# Altium integrated library SCREW.IntLib: 45 symbols
Pins are listed as number, name and electrical type; pins without a type are passive.

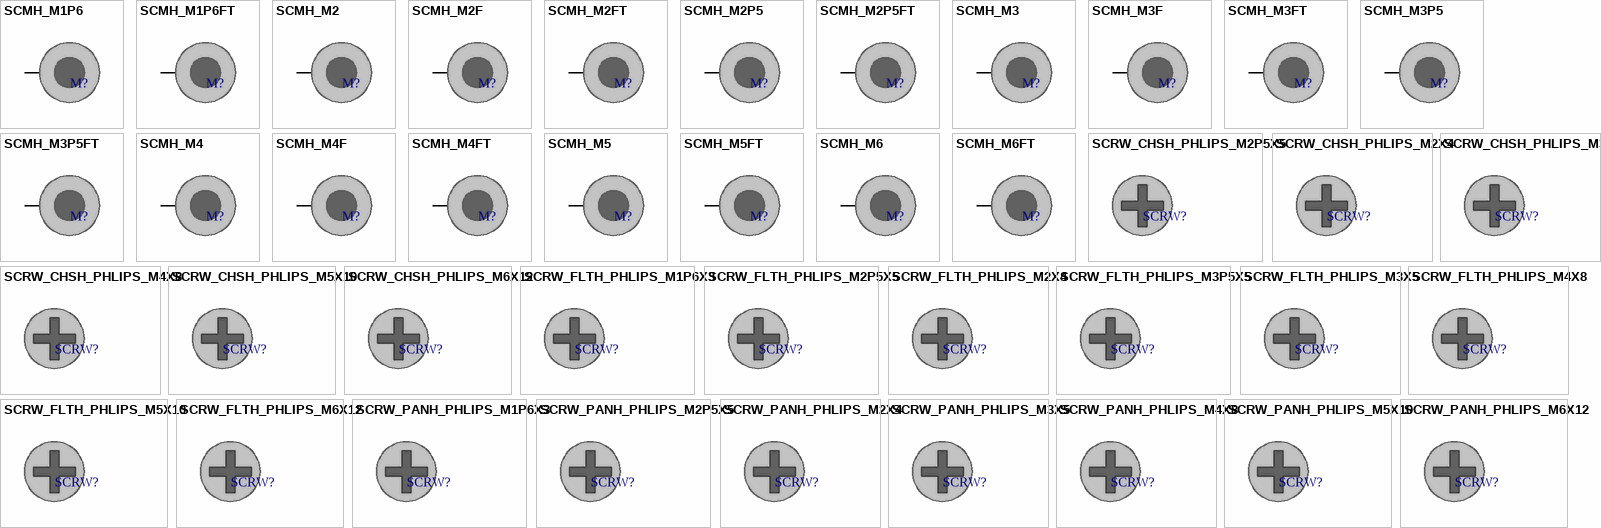
[diagram p0: symbols SCMH_M1P6 to SCRW_PANH_PHLIPS_M6X12]

## SCMH_M1P6
designator M?, comment DNP/MH  (value not drawn)  (no BOM)
SCREW mouting, M1.6, 1.6mm diameter and 3.2mm PanHead; ASSEMBLY: DNP; VALUE: DNP/MH
footprint SCMH_M1P6 (SCREW mouting, M1.6, 1.6mm diameter and 3.2mm PanHead)
pins: 1

## SCMH_M1P6FT
designator M?, comment DNP/MH  (value not drawn)  (no BOM)
SCREW mouting, M1.6, 1.6mm diameter and 3mm, FlatHead; ASSEMBLY: DNP; VALUE: DNP/MH
footprint SCMH_M1P6FT (SCREW mouting, M1.6, 1.6mm diameter and 2.5mm, FlatHead)
pins: 1

## SCMH_M2
designator M?, comment DNP/MH  (value not drawn)  (no BOM)
SCREW mouting, M2, 2.0mm diameter and 4.0mm PanHead; ASSEMBLY: DNP; VALUE: DNP/MH
footprint SCMH_M2 (SCREW mouting, M2, 2.0mm diameter and 4.0mm PanHead)
pins: 1

## SCMH_M2F
designator M?, comment DNP/MH  (value not drawn)  (no BOM)
SCREW mouting, M2, 2.0mm diameter and 5.0mm FlangeHead; ASSEMBLY: DNP; VALUE: DNP/MH
footprint SCMH_M2F (SCREW mouting, M2, 2.0mm diameter and 5.0mm FlangeHead)
pins: 1

## SCMH_M2FT
designator M?, comment DNP/MH  (value not drawn)  (no BOM)
SCREW mouting, M2, 2.0mm diameter and 3.2mm, FlatHead; ASSEMBLY: DNP; VALUE: DNP/MH
footprint SCMH_M2FT (SCREW mouting, M2, 2.0mm diameter and 3.2mm, FlatHead)
pins: 1

## SCMH_M2P5
designator M?, comment DNP/MH  (value not drawn)  (no BOM)
SCREW mouting, M2.5, 2.5mm diameter and 5.0mm PanHead; ASSEMBLY: DNP; VALUE: DNP/MH
footprint SCMH_M2P5 (SCREW mouting, M2.5, 2.5mm diameter and 5.0mm PanHead)
pins: 1

## SCMH_M2P5FT
designator M?, comment DNP/MH  (value not drawn)  (no BOM)
SCREW mouting, M2.5, 2.5mm diameter and 5.0mm, FlatHead; ASSEMBLY: DNP; VALUE: DNP/MH
footprint SCMH_M2P5FT (SCREW mouting, M2.5, 2.5mm diameter and 5.0mm, FlatHead)
pins: 1

## SCMH_M3
designator M?, comment DNP/MH  (value not drawn)  (no BOM)
SCREW mouting, M3, 3.0mm diameter and 6.0mm PanHead; ASSEMBLY: DNP; VALUE: DNP/MH
footprint SCMH_M3 (SCREW mouting, M3, 3.0mm diameter and 6.0mm PanHead)
pins: 1

## SCMH_M3F
designator M?, comment DNP/MH  (value not drawn)  (no BOM)
SCREW mouting, M3, 3.0mm diameter and 6.0mm FlangeHead; ASSEMBLY: DNP; VALUE: DNP/MH
footprint SCMH_M3F (SCREW mouting, M3, 3.0mm diameter and 6.0mm FlangeHead)
pins: 1

## SCMH_M3FT
designator M?, comment DNP/MH  (value not drawn)  (no BOM)
SCREW mouting, M3, 3.0mm diameter and 6.0mm, FlatHead; ASSEMBLY: DNP; VALUE: DNP/MH
footprint SCMH_M3FT (SCREW mouting, M3, 3.0mm diameter and 6.0mm, FlatHead)
pins: 1

## SCMH_M3P5
designator M?, comment DNP/MH  (value not drawn)  (no BOM)
SCREW mouting, M3.5, 3.5mm diameter and 7.0mm PanHead; ASSEMBLY: DNP; VALUE: DNP/MH
footprint SCMH_M3P5 (SCREW mouting, M3.5, 3.5mm diameter and 7.0mm PanHead)
pins: 1

## SCMH_M3P5FT
designator M?, comment DNP/MH  (value not drawn)  (no BOM)
SCREW mouting, M3.5, 3.5mm diameter and 7.0mm, FlatHead; ASSEMBLY: DNP; VALUE: DNP/MH
footprint SCMH_M3P5FT (SCREW mouting, M3.5, 3.5mm diameter and 7.0mm, FlatHead)
pins: 1

## SCMH_M4
designator M?, comment DNP/MH  (value not drawn)  (no BOM)
SCREW mouting, M4, 4mm diameter and 8.0mm PanHead; ASSEMBLY: DNP; VALUE: DNP/MH
footprint SCMH_M4 (SCREW mouting, M4, 4mm diameter and 8.0mm PanHead)
pins: 1

## SCMH_M4F
designator M?, comment DNP/MH  (value not drawn)  (no BOM)
SCREW mouting, M4, 4mm diameter and 8.0mm FlangeHead; ASSEMBLY: DNP; VALUE: DNP/MH
footprint SCMH_M4F (SCREW mouting, M4, 4mm diameter and 8.0mm FlangeHead)
pins: 1

## SCMH_M4FT
designator M?, comment DNP/MH  (value not drawn)  (no BOM)
SCREW mouting, M4, 4mm diameter and 8.0mm, FlatHead; ASSEMBLY: DNP; VALUE: DNP/MH
footprint SCMH_M4FT (SCREW mouting, M4, 4mm diameter and 8.0mm, FlatHead)
pins: 1

## SCMH_M5
designator M?, comment DNP/MH  (value not drawn)  (no BOM)
SCREW mouting, M5, 5mm diameter and 10.0mm PanHead; ASSEMBLY: DNP; VALUE: DNP/MH
footprint SCMH_M5 (SCREW mouting, M5, 5mm diameter and 10.0mm PanHead)
pins: 1

## SCMH_M5FT
designator M?, comment DNP/MH  (value not drawn)  (no BOM)
SCREW mouting, M5, 5mm diameter and 10.0mm, FlatHead; ASSEMBLY: DNP; VALUE: DNP/MH
footprint SCMH_M5FT (SCREW mouting, M5, 5mm diameter and 10.0mm, FlatHead)
pins: 1

## SCMH_M6
designator M?, comment DNP/MH  (value not drawn)  (no BOM)
SCREW mouting, M6, 6mm diameter and 12mm PanHead; ASSEMBLY: DNP; VALUE: DNP/MH
footprint SCMH_M6 (SCREW mouting, M6, 6mm diameter and 12mm PanHead)
pins: 1

## SCMH_M6FT
designator M?, comment DNP/MH  (value not drawn)  (no BOM)
SCREW mouting, M6, 6mm diameter and 12mm, FlatHead; ASSEMBLY: DNP; VALUE: DNP/MH
footprint SCMH_M6FT (SCREW mouting, M5, 5mm diameter and 9.6mm, FlatHead)
pins: 1

## SCRW_CHSH_PHLIPS_M2P5X5
designator SCRW?, comment SCREW  (value not drawn)
SCREW, M2.5, 2.5mm diameter and 5.0mm PanHead; ASSEMBLY: DNP; VALUE: SCREW
footprint SCRW_CHSH_PHLIPS_M2P5X5 (SCREW, M3, 2.5mm diameter and 5.0mm, CheaseHead, Phillips, 5mm length)

## SCRW_CHSH_PHLIPS_M2X4
designator SCRW?, comment SCREW  (value not drawn)
SCREW, M2, 2.0mm diameter and 4.0mm PanHead; ASSEMBLY: DNP; VALUE: SCREW
footprint SCRW_CHSH_PHLIPS_M2X4 (SCREW, M3, 2.0mm diameter and 4.0mm, CheaseHead, Phillips, 4mm length)

## SCRW_CHSH_PHLIPS_M3X5
designator SCRW?, comment SCREW  (value not drawn)
SCREW, M3, 3.0mm diameter and 6.0mm PanHead; ASSEMBLY: DNP; VALUE: SCREW
footprint SCRW_CHSH_PHLIPS_M3X5 (SCREW, M3, 3mm diameter and 6.0mm, CheaseHead, Phillips, 5mm length)

## SCRW_CHSH_PHLIPS_M4X8
designator SCRW?, comment SCREW  (value not drawn)
SCREW, M4, 4mm diameter and 8.0mm PanHead; ASSEMBLY: DNP; VALUE: SCREW
footprint SCRW_CHSH_PHLIPS_M4X8 (SCREW, M3, 4mm diameter and 8.0mm, CheaseHead, Phillips, 8mm length)

## SCRW_CHSH_PHLIPS_M5X10
designator SCRW?, comment SCREW  (value not drawn)
SCREW, M5, 5mm diameter and 10.0mm PanHead; ASSEMBLY: DNP; VALUE: SCREW
footprint SCRW_CHSH_PHLIPS_M5X10 (SCREW, M3, 5mm diameter and 10mm, CheaseHead, Phillips, 10mm length)

## SCRW_CHSH_PHLIPS_M6X12
designator SCRW?, comment SCREW  (value not drawn)
SCREW, M6, 6mm diameter and 12mm PanHead; ASSEMBLY: DNP; VALUE: SCREW
footprint SCRW_CHSH_PHLIPS_M6X12 (SCREW, M3, 6mm diameter and 12mm, CheaseHead, Phillips, 12mm length)

## SCRW_FLTH_PHLIPS_M1P6X3
designator SCRW?, comment SCREW  (value not drawn)
SCREW, M1.6, 1.6mm diameter and 3mm, FlatHead; ASSEMBLY: DNP; VALUE: SCREW
footprint SCRW_FLTH_PHLIPS_M1P6X3 (SCREW, M1.6, 1.6mm diameter and 2.5mm FlatHead, Phillips, 3mm length)

## SCRW_FLTH_PHLIPS_M2P5X5
designator SCRW?, comment SCREW  (value not drawn)
SCREW, M2.5, 2.5mm diameter and 5.0mm, FlatHead; ASSEMBLY: DNP; VALUE: SCREW
footprint SCRW_FLTH_PHLIPS_M2P5X5 (SCREW, M2.5, 2.5mm diameter and 5.0mm FlatHead, Phillips, 5mm length)

## SCRW_FLTH_PHLIPS_M2X4
designator SCRW?, comment SCREW  (value not drawn)
SCREW, M2, 2.0mm diameter and 3.2mm, FlatHead; ASSEMBLY: DNP; VALUE: SCREW
footprint SCRW_FLTH_PHLIPS_M2X4 (SCREW, M2, 2.0mm diameter and 4.0mm FlatHead, Phillips, 4mm length)

## SCRW_FLTH_PHLIPS_M3P5X5
designator SCRW?, comment SCREW  (value not drawn)
SCREW, M3.5, 3.5mm diameter and 7.0mm, FlatHead; ASSEMBLY: DNP; VALUE: SCREW
footprint SCRW_FLTH_PHLIPS_M3P5X5 (SCREW, M3.5, 3.5mm diameter and 7.0mm FlatHead, Phillips, 5mm length)

## SCRW_FLTH_PHLIPS_M3X5
designator SCRW?, comment SCREW  (value not drawn)
SCREW, M3, 3.0mm diameter and 6.0mm, FlatHead; ASSEMBLY: DNP; VALUE: SCREW
footprint SCRW_FLTH_PHLIPS_M3X5 (SCREW, M3, 3mm diameter and 6.0mm FlatHead, Phillips, 5mm length)

## SCRW_FLTH_PHLIPS_M4X8
designator SCRW?, comment SCREW  (value not drawn)
SCREW, M4, 4mm diameter and 8.0mm, FlatHead; ASSEMBLY: DNP; VALUE: SCREW
footprint SCRW_FLTH_PHLIPS_M4X8 (SCREW, M4, 4mm diameter and 8.0mm FlatHead, Phillips, 8mm length)

## SCRW_FLTH_PHLIPS_M5X10
designator SCRW?, comment SCREW  (value not drawn)
SCREW, M5, 5mm diameter and 10.0mm, FlatHead; ASSEMBLY: DNP; VALUE: SCREW
footprint SCRW_FLTH_PHLIPS_M5X10 (SCREW, M5, 5mm diameter and 10mm FlatHead, Phillips, 10mm length)

## SCRW_FLTH_PHLIPS_M6X12
designator SCRW?, comment SCREW  (value not drawn)
SCREW, M6, 6mm diameter and 12mm, FlatHead; ASSEMBLY: DNP; VALUE: SCREW
footprint SCRW_FLTH_PHLIPS_M6X12 (SCREW, M6, 6mm diameter and 12mm FlatHead, Phillips, 12mm length)

## SCRW_PANH_PHLIPS_M1P6X3
designator SCRW?, comment SCREW  (value not drawn)
SCREW, M1.6, 1.6mm diameter and 3.2mm PanHead; ASSEMBLY: DNP; VALUE: SCREW
footprint SCRW_PANH_PHLIPS_M1P6X3 (SCREW, M1.6, 1.6mm diameter and 3.2mm PanHead, Phillips, 3mm length)

## SCRW_PANH_PHLIPS_M2P5X5
designator SCRW?, comment SCREW  (value not drawn)
SCREW, M2.5, 2.5mm diameter and 5.0mm PanHead; ASSEMBLY: DNP; VALUE: SCREW
footprint SCRW_PANH_PHLIPS_M2P5X5 (SCREW, M3, 2.5mm diameter and 5.0mm PanHead, Phillips, 5mm length)

## SCRW_PANH_PHLIPS_M2X4
designator SCRW?, comment SCREW  (value not drawn)
SCREW, M2, 2.0mm diameter and 4.0mm PanHead; ASSEMBLY: DNP; VALUE: SCREW
footprint SCRW_PANH_PHLIPS_M2X4 (SCREW, M3, 2.0mm diameter and 4.0mm PanHead, Phillips, 4mm length)

## SCRW_PANH_PHLIPS_M3X5
designator SCRW?, comment SCREW  (value not drawn)
SCREW, M3, 3.0mm diameter and 6.0mm PanHead; ASSEMBLY: DNP; VALUE: SCREW
footprint SCRW_PANH_PHLIPS_M3X5 (SCREW, M3, 3.0mm diameter and 6.0mm PanHead, Phillips or Cross, 5mm Length)

## SCRW_PANH_PHLIPS_M4X8
designator SCRW?, comment SCREW  (value not drawn)
SCREW, M4, 4mm diameter and 8.0mm PanHead; ASSEMBLY: DNP; VALUE: SCREW
footprint SCRW_PANH_PHLIPS_M4X8 (SCREW, M3, 4.0mm diameter and 8.0mm PanHead, Phillips, 8mm length)

## SCRW_PANH_PHLIPS_M5X10
designator SCRW?, comment SCREW  (value not drawn)
SCREW, M5, 5mm diameter and 10.0mm PanHead; ASSEMBLY: DNP; VALUE: SCREW
footprint SCRW_PANH_PHLIPS_M5X10 (SCREW, M3, 5.0mm diameter and 10mm PanHead, Phillips, 10mm length)

## SCRW_PANH_PHLIPS_M6X12
designator SCRW?, comment SCREW  (value not drawn)
SCREW, M6, 6mm diameter and 12mm PanHead; ASSEMBLY: DNP; VALUE: SCREW
footprint SCRW_PANH_PHLIPS_M6X12 (SCREW, M3, 6.0mm diameter and 12mm PanHead, Phillips, 12mm length)

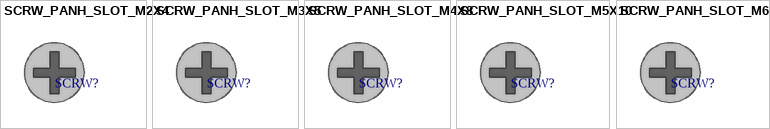
[diagram p1: symbols SCRW_PANH_SLOT_M2X4 to SCRW_PANH_SLOT_M6X12]

## SCRW_PANH_SLOT_M2X4
designator SCRW?, comment SCREW  (value not drawn)
SCREW, M2, 2.0mm diameter and 4.0mm PanHead; ASSEMBLY: DNP; VALUE: SCREW
footprint SCRW_PANH_SLOT_M2X4 (SCREW, M3, 2.0mm diameter and 4.0mm PanHead, Slotted, 4mm length)

## SCRW_PANH_SLOT_M3X5
designator SCRW?, comment SCREW  (value not drawn)
SCREW, M3, 3.0mm diameter and 6.0mm PanHead; ASSEMBLY: DNP; VALUE: SCREW
footprint SCRW_PANH_SLOT_M3X5 (SCREW, M3, 3.0mm diameter and 6.0mm PanHead, Slotted, 5mm length)

## SCRW_PANH_SLOT_M4X8
designator SCRW?, comment SCREW  (value not drawn)
SCREW, M4, 4mm diameter and 8.0mm PanHead; ASSEMBLY: DNP; VALUE: SCREW
footprint SCRW_PANH_SLOT_M4X8 (SCREW, M3, 4.0mm diameter and 8.0mm PanHead, Slotted, 6mm length)

## SCRW_PANH_SLOT_M5X10
designator SCRW?, comment SCREW  (value not drawn)
SCREW, M5, 5mm diameter and 10.0mm PanHead; ASSEMBLY: DNP; VALUE: SCREW
footprint SCRW_PANH_SLOT_M5X10 (Footprint not found)

## SCRW_PANH_SLOT_M6X12
designator SCRW?, comment SCREW  (value not drawn)
SCREW, M6, 6mm diameter and 12mm PanHead; ASSEMBLY: DNP; VALUE: SCREW
footprint SCRW_PANH_SLOT_M6X12 (SCREW, M3, 6.0mm diameter and 12mm PanHead, Slotted, 10mm length)